# Altium footprint library SnapEDApcb.PcbLib: 1 footprints
Each footprint in its own frame and in the unit in brackets; x right, y up, seen from the top. Pads: shape width x height; smd on the part's side, far side on the other; paste and mask are expansions set on the pad; w line width, h text height; cw(c..) or ccw(c..) is an arc to the next point about the centre after c.
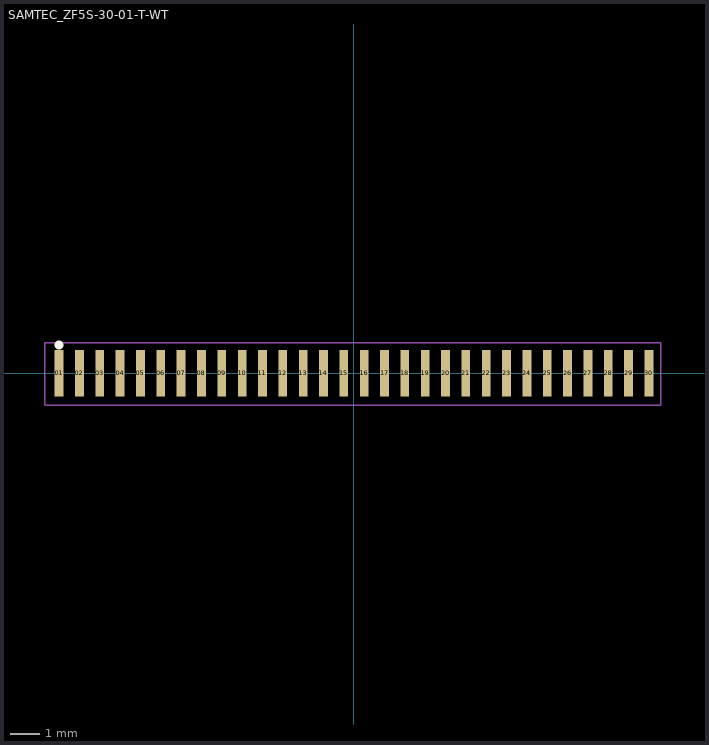
[diagram p0: the footprint, top view; thin cyan lines are the x and y axes]

## SAMTEC_ZF5S-30-01-T-WT [mm]
pads (30):
  rect 0.3x1.6 smd: 01(-10.15,0) 02(-9.45,0) 03(-8.75,0) 04(-8.05,0) 05(-7.35,0) 06(-6.65,0) 07(-5.95,0) 08(-5.25,0) 09(-4.55,0) 10(-3.85,0) 11(-3.15,0) 12(-2.45,0) 13(-1.75,0) 14(-1.05,0) 15(-0.35,0) 16(0.35,0) 17(1.05,0) 18(1.75,0) 19(2.45,0) 20(3.15,0) 21(3.85,0) 22(4.55,0) 23(5.25,0) 24(5.95,0) 25(6.65,0) 26(7.35,0) 27(8.05,0) 28(8.75,0) 29(9.45,0) 30(10.15,0)
Top Overlay:
  circle w0.254: c-10.15,0.978 r0.025
Mechanical 15:
  lines w0.05: -10.647,-1.091 -10.647,1.05 10.562,1.05 10.562,-1.091 -10.647,-1.091